# Altium integrated library Analog Devices Data Converters Analog-to-Digital Converters.IntLib: 2400 symbols (part 254 of 338)
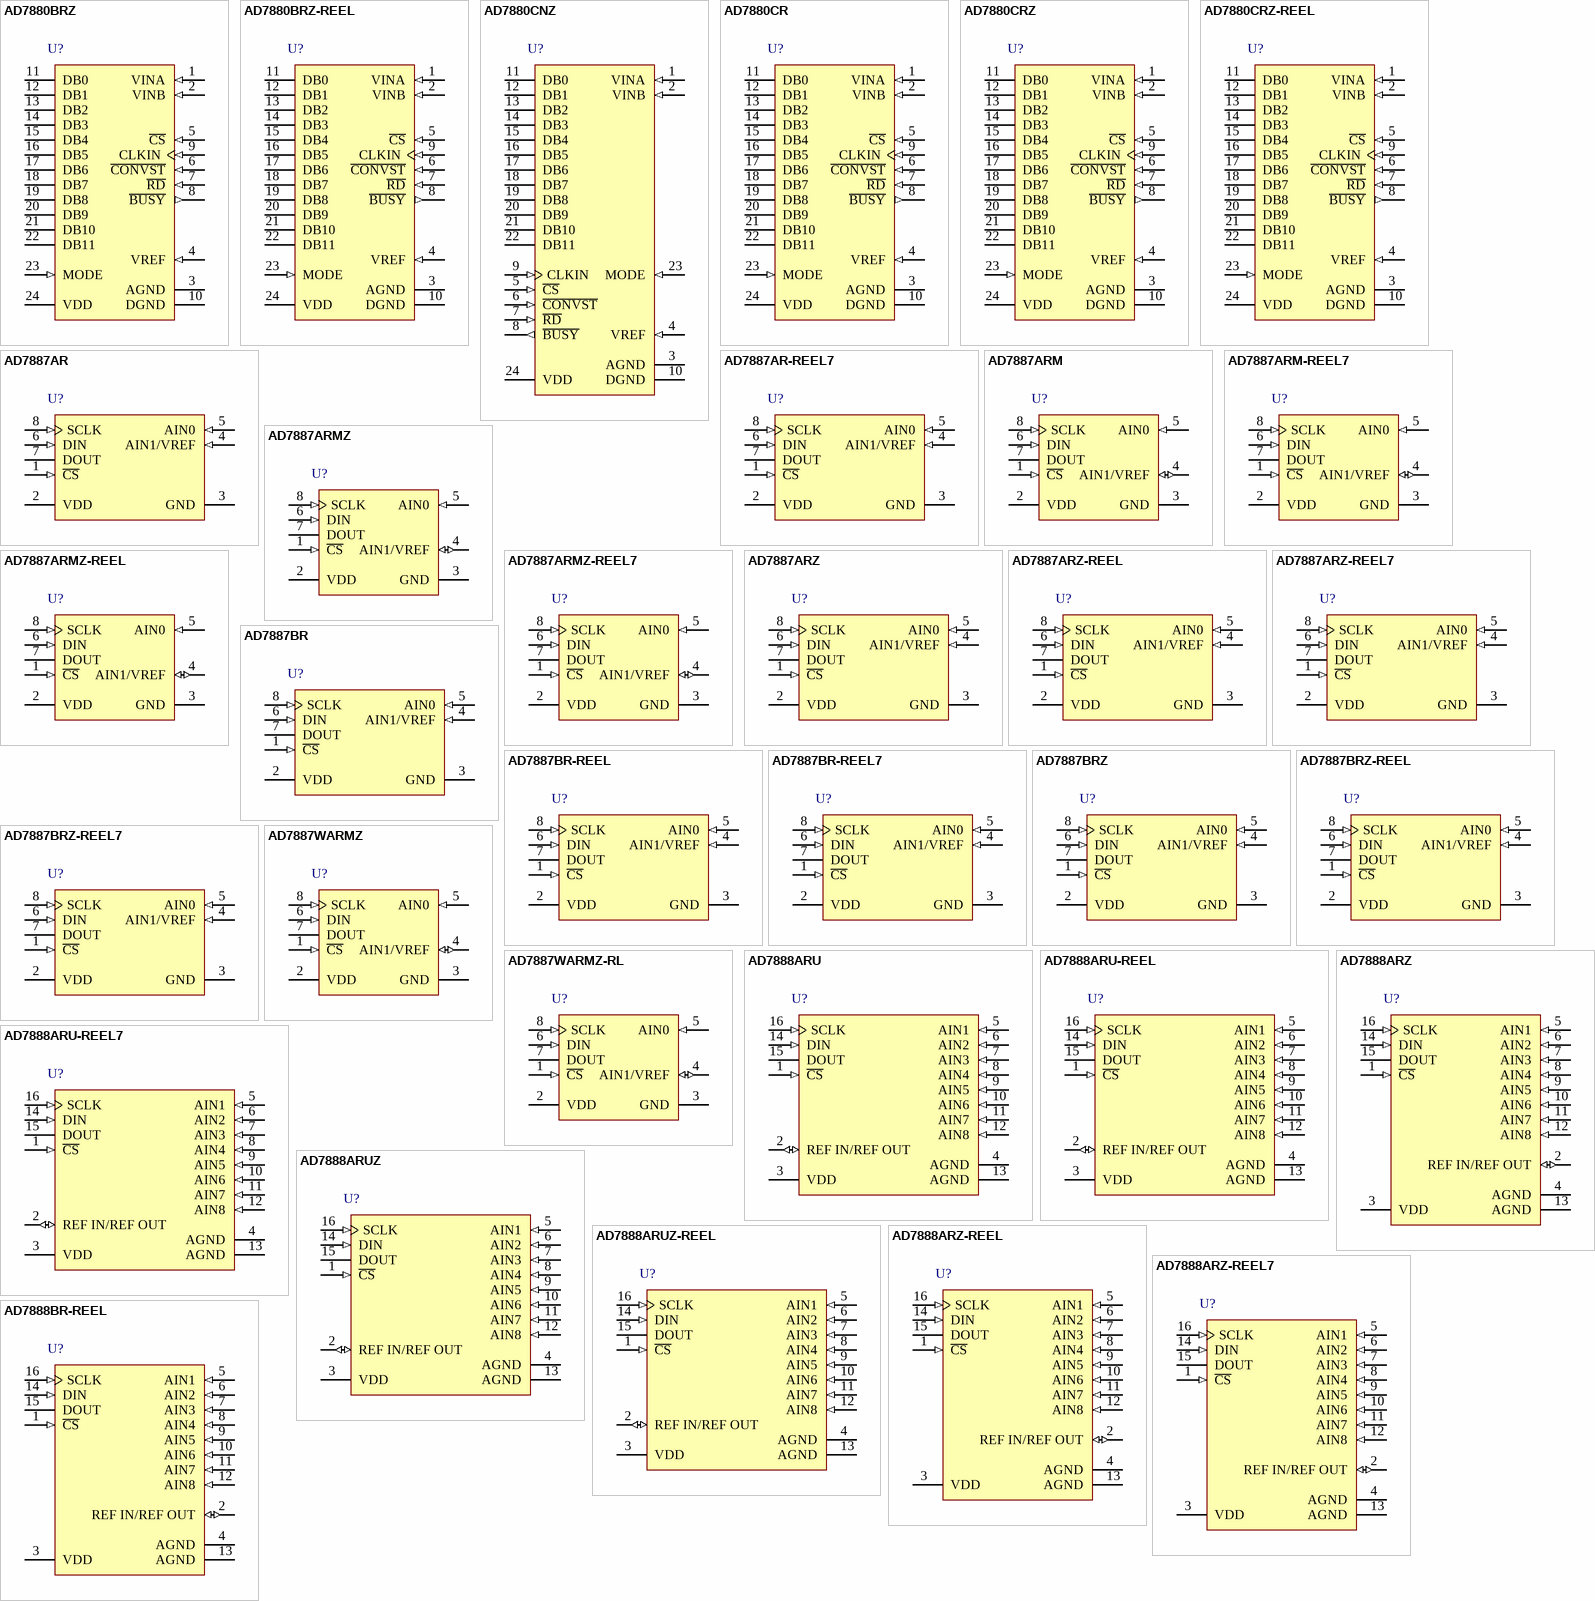
[diagram p392: symbols AD7880BRZ to AD7888BR-REEL]

## AD7880BRZ
designator U?
Single 12-Bit Sampling Low Power Analog-to-Digital Converter with Parallel Interface, LC2MOS, LC2MOS Single +5 V 66KSPS, 0 to +70 degC, RW-24, Pb-Free, Tube; Part Number: AD7880; Manufacturer: Analog Devices; Resolution (Bits): 12; Channels: 1; Throughput Rate (SPS): 66K; Interface: Par; DatasheetVersion: Rev.0; PackageVersion: 060706-A; PackageReference: RW-24; PackageDescription: 24-Lead Standard Small Outline Package [SOIC_W]; RoHS: Y; Packing: Tube; Mounting Technology: Surface Mount; Code_JEDEC: MS-013-AD; ComponentLink1Description: Manufacturer URL; ComponentLink1URL: http://www.analog.com/en/index.html; ComponentLink2Description: Datasheet; ComponentLink2URL: http://www.analog.com/static/imported-files/data_sheets/AD7880.pdf; ComponentLink3Description: Package Specification; ComponentLink3URL: http://www.analog.com/static/imported-files/packages/33665150946139RW_24.pdf; ComponentLink4Description: Product URL; ComponentLink4URL: http://www.analog.com/en/analog-to-digital-converters/ad-converters/ad7880/products/product.html
footprint RW-24_N (SOIC, 24-Leads, Body 15.4x7.5mm, Pitch 1.27mm, IPC Medium Density)
footprint RW-24_L (SOIC, 24-Leads, Body 15.4x7.5mm, Pitch 1.27mm, IPC High Density)
footprint RW-24_M (SOIC, 24-Leads, Body 15.4x7.5mm, Pitch 1.27mm, IPC Low Density)
pins: 1 VINA (in) "Analog Input.", 2 VINB (in) "Analog Input.", 3 AGND (power) "Analog Ground.", 4 VREF (in) "Voltage Reference Input. This is normally tied to VDD.", 5 ~{CS} (in) "Chip Select. Active Low Logic input. The device is selected when this input is active.", 6 ~{CONVST} (in) "Convert Start. A low to high transition on this input puts the track/hold into hold mode and starts conversion. This input is asynchronous to the CLKIN and is independent of C\S\ and R\D\.", 7 ~{RD} (in) "Read. Active Low Logic Input. This input is used in conjunction with C\S\ low to enable data outputs", 8 ~{BUSY} (out) "Active Low Logic Output. This status line indicates converter status. B\U\S\Y\ is low during conversion.", 9 CLKIN (in) "Clock Input. TTL-compatible logic input. Used as the clock source for the A/D converter. The mark/space ratio of the clock can vary from 40/60 to 60/40.", 10 DGND (power) "Digital Ground.", 11 DB0 (hiz) "Three-State Data Outputs. These become active when C\S\ and R\D\ are brought low.", 12 DB1 (hiz) "Three-State Data Outputs. These become active when C\S\ and R\D\ are brought low.", 13 DB2 (hiz) "Three-State Data Outputs. These become active when C\S\ and R\D\ are brought low.", 14 DB3 (hiz) "Three-State Data Outputs. These become active when C\S\ and R\D\ are brought low.", 15 DB4 (hiz) "Three-State Data Outputs. These become active when C\S\ and R\D\ are brought low.", 16 DB5 (hiz) "Three-State Data Outputs. These become active when C\S\ and R\D\ are brought low.", 17 DB6 (hiz) "Three-State Data Outputs. These become active when C\S\ and R\D\ are brought low.", 18 DB7 (hiz) "Three-State Data Outputs. These become active when C\S\ and R\D\ are brought low.", 19 DB8 (hiz) "Three-State Data Outputs. These become active when C\S\ and R\D\ are brought low.", 20 DB9 (hiz) "Three-State Data Outputs. These become active when C\S\ and R\D\ are brought low.", 21 DB10 (hiz) "Three-State Data Outputs. These become active when C\S\ and R\D\ are brought low.", 22 DB11 (hiz) "Three-State Data Outputs. These become active when C\S\ and R\D\ are brought low.", 23 MODE (in) "MODE Input. This input is used to put the device into the power save mode (MODE = 0 V). During normal operation, the MODE input will be a logic high (MODE = VDD).", 24 VDD (power) "Power Supply. This is nominally +5 V."

## AD7880BRZ-REEL
designator U?
Single 12-Bit Sampling Low Power Analog-to-Digital Converter with Parallel Interface, LC2MOS, LC2MOS Single +5 V 66KSPS, 0 to +70 degC, RW-24, Pb-Free, Reel; Part Number: AD7880; Manufacturer: Analog Devices; Resolution (Bits): 12; Channels: 1; Throughput Rate (SPS): 66K; Interface: Par; DatasheetVersion: Rev.0; PackageVersion: 060706-A; PackageReference: RW-24; PackageDescription: 24-Lead Standard Small Outline Package [SOIC_W]; RoHS: Y; Packing: Reel; Mounting Technology: Surface Mount; Code_JEDEC: MS-013-AD; ComponentLink1Description: Manufacturer URL; ComponentLink1URL: http://www.analog.com/en/index.html; ComponentLink2Description: Datasheet; ComponentLink2URL: http://www.analog.com/static/imported-files/data_sheets/AD7880.pdf; ComponentLink3Description: Package Specification; ComponentLink3URL: http://www.analog.com/static/imported-files/packages/33665150946139RW_24.pdf; ComponentLink4Description: Product URL; ComponentLink4URL: http://www.analog.com/en/analog-to-digital-converters/ad-converters/ad7880/products/product.html
footprint RW-24_N (SOIC, 24-Leads, Body 15.4x7.5mm, Pitch 1.27mm, IPC Medium Density)
footprint RW-24_L (SOIC, 24-Leads, Body 15.4x7.5mm, Pitch 1.27mm, IPC High Density)
footprint RW-24_M (SOIC, 24-Leads, Body 15.4x7.5mm, Pitch 1.27mm, IPC Low Density)
pins: 1 VINA (in) "Analog Input.", 2 VINB (in) "Analog Input.", 3 AGND (power) "Analog Ground.", 4 VREF (in) "Voltage Reference Input. This is normally tied to VDD.", 5 ~{CS} (in) "Chip Select. Active Low Logic input. The device is selected when this input is active.", 6 ~{CONVST} (in) "Convert Start. A low to high transition on this input puts the track/hold into hold mode and starts conversion. This input is asynchronous to the CLKIN and is independent of C\S\ and R\D\.", 7 ~{RD} (in) "Read. Active Low Logic Input. This input is used in conjunction with C\S\ low to enable data outputs", 8 ~{BUSY} (out) "Active Low Logic Output. This status line indicates converter status. B\U\S\Y\ is low during conversion.", 9 CLKIN (in) "Clock Input. TTL-compatible logic input. Used as the clock source for the A/D converter. The mark/space ratio of the clock can vary from 40/60 to 60/40.", 10 DGND (power) "Digital Ground.", 11 DB0 (hiz) "Three-State Data Outputs. These become active when C\S\ and R\D\ are brought low.", 12 DB1 (hiz) "Three-State Data Outputs. These become active when C\S\ and R\D\ are brought low.", 13 DB2 (hiz) "Three-State Data Outputs. These become active when C\S\ and R\D\ are brought low.", 14 DB3 (hiz) "Three-State Data Outputs. These become active when C\S\ and R\D\ are brought low.", 15 DB4 (hiz) "Three-State Data Outputs. These become active when C\S\ and R\D\ are brought low.", 16 DB5 (hiz) "Three-State Data Outputs. These become active when C\S\ and R\D\ are brought low.", 17 DB6 (hiz) "Three-State Data Outputs. These become active when C\S\ and R\D\ are brought low.", 18 DB7 (hiz) "Three-State Data Outputs. These become active when C\S\ and R\D\ are brought low.", 19 DB8 (hiz) "Three-State Data Outputs. These become active when C\S\ and R\D\ are brought low.", 20 DB9 (hiz) "Three-State Data Outputs. These become active when C\S\ and R\D\ are brought low.", 21 DB10 (hiz) "Three-State Data Outputs. These become active when C\S\ and R\D\ are brought low.", 22 DB11 (hiz) "Three-State Data Outputs. These become active when C\S\ and R\D\ are brought low.", 23 MODE (in) "MODE Input. This input is used to put the device into the power save mode (MODE = 0 V). During normal operation, the MODE input will be a logic high (MODE = VDD).", 24 VDD (power) "Power Supply. This is nominally +5 V."

## AD7880CNZ
designator U?
Single 12-Bit Sampling Low Power Analog-to-Digital Converter with Parallel Interface, LC2MOS, LC2MOS Single +5 V 66KSPS, -40 to +85 degC, N-24-1, Pb-Free, Tube; Part Number: AD7880; Manufacturer: Analog Devices; Resolution (Bits): 12; Channels: 1; Throughput Rate (SPS): 66K; Interface: Par; DatasheetVersion: Rev.0; PackageVersion: 071006-A; PackageReference: N-24-1; PackageDescription: 24-Lead Plastic Dual In-Line Package [PDIP] Narrow Body; RoHS: Y; Packing: Tube; Mounting Technology: Through-hole; Code_JEDEC: MS-001; ComponentLink1Description: Manufacturer URL; ComponentLink1URL: http://www.analog.com/en/index.html; ComponentLink2Description: Datasheet; ComponentLink2URL: http://www.analog.com/static/imported-files/data_sheets/AD7880.pdf; ComponentLink3Description: Package Specification; ComponentLink3URL: http://www.analog.com/static/imported-files/packages/50726455539629N_24_1.pdf; ComponentLink4Description: Product URL; ComponentLink4URL: http://www.analog.com/en/analog-to-digital-converters/ad-converters/ad7880/products/product.html
footprint N-24-1 (DIP, 24-Leads, Row Spacing 7.62mm, Pitch 2.54mm, Body 31.9x6.6mm)
pins: 1 VINA (in) "Analog Input.", 2 VINB (in) "Analog Input.", 3 AGND (power) "Analog Ground.", 4 VREF (in) "Voltage Reference Input. This is normally tied to VDD.", 5 ~{CS} (in) "Chip Select. Active Low Logic input. The device is selected when this input is active.", 6 ~{CONVST} (in) "Convert Start. A low to high transition on this input puts the track/hold into hold mode and starts conversion. This input is asynchronous to the CLKIN and is independent of C\S\ and R\D\.", 7 ~{RD} (in) "Read. Active Low Logic Input. This input is used in conjunction with C\S\ low to enable data outputs", 8 ~{BUSY} (out) "Active Low Logic Output. This status line indicates converter status. B\U\S\Y\ is low during conversion.", 9 CLKIN (in) "Clock Input. TTL-compatible logic input. Used as the clock source for the A/D converter. The mark/space ratio of the clock can vary from 40/60 to 60/40.", 10 DGND (power) "Digital Ground.", 11 DB0 (hiz) "Three-State Data Outputs. These become active when C\S\ and R\D\ are brought low.", 12 DB1 (hiz) "Three-State Data Outputs. These become active when C\S\ and R\D\ are brought low.", 13 DB2 (hiz) "Three-State Data Outputs. These become active when C\S\ and R\D\ are brought low.", 14 DB3 (hiz) "Three-State Data Outputs. These become active when C\S\ and R\D\ are brought low.", 15 DB4 (hiz) "Three-State Data Outputs. These become active when C\S\ and R\D\ are brought low.", 16 DB5 (hiz) "Three-State Data Outputs. These become active when C\S\ and R\D\ are brought low.", 17 DB6 (hiz) "Three-State Data Outputs. These become active when C\S\ and R\D\ are brought low.", 18 DB7 (hiz) "Three-State Data Outputs. These become active when C\S\ and R\D\ are brought low.", 19 DB8 (hiz) "Three-State Data Outputs. These become active when C\S\ and R\D\ are brought low.", 20 DB9 (hiz) "Three-State Data Outputs. These become active when C\S\ and R\D\ are brought low.", 21 DB10 (hiz) "Three-State Data Outputs. These become active when C\S\ and R\D\ are brought low.", 22 DB11 (hiz) "Three-State Data Outputs. These become active when C\S\ and R\D\ are brought low.", 23 MODE (in) "MODE Input. This input is used to put the device into the power save mode (MODE = 0 V). During normal operation, the MODE input will be a logic high (MODE = VDD).", 24 VDD (power) "Power Supply. This is nominally +5 V."

## AD7880CR
designator U?
Single 12-Bit Sampling Low Power Analog-to-Digital Converter with Parallel Interface, LC2MOS, LC2MOS Single +5 V 66KSPS, -40 to +85 degC, RW-24, Tube; Part Number: AD7880; Manufacturer: Analog Devices; Resolution (Bits): 12; Channels: 1; Throughput Rate (SPS): 66K; Interface: Par; DatasheetVersion: Rev.0; PackageVersion: 060706-A; PackageReference: RW-24; PackageDescription: 24-Lead Standard Small Outline Package [SOIC_W]; RoHS: N; Packing: Tube; Mounting Technology: Surface Mount; Code_JEDEC: MS-013-AD; ComponentLink1Description: Manufacturer URL; ComponentLink1URL: http://www.analog.com/en/index.html; ComponentLink2Description: Datasheet; ComponentLink2URL: http://www.analog.com/static/imported-files/data_sheets/AD7880.pdf; ComponentLink3Description: Package Specification; ComponentLink3URL: http://www.analog.com/static/imported-files/packages/33665150946139RW_24.pdf; ComponentLink4Description: Product URL; ComponentLink4URL: http://www.analog.com/en/analog-to-digital-converters/ad-converters/ad7880/products/product.html
footprint RW-24_N (SOIC, 24-Leads, Body 15.4x7.5mm, Pitch 1.27mm, IPC Medium Density)
footprint RW-24_L (SOIC, 24-Leads, Body 15.4x7.5mm, Pitch 1.27mm, IPC High Density)
footprint RW-24_M (SOIC, 24-Leads, Body 15.4x7.5mm, Pitch 1.27mm, IPC Low Density)
pins: 1 VINA (in) "Analog Input.", 2 VINB (in) "Analog Input.", 3 AGND (power) "Analog Ground.", 4 VREF (in) "Voltage Reference Input. This is normally tied to VDD.", 5 ~{CS} (in) "Chip Select. Active Low Logic input. The device is selected when this input is active.", 6 ~{CONVST} (in) "Convert Start. A low to high transition on this input puts the track/hold into hold mode and starts conversion. This input is asynchronous to the CLKIN and is independent of C\S\ and R\D\.", 7 ~{RD} (in) "Read. Active Low Logic Input. This input is used in conjunction with C\S\ low to enable data outputs", 8 ~{BUSY} (out) "Active Low Logic Output. This status line indicates converter status. B\U\S\Y\ is low during conversion.", 9 CLKIN (in) "Clock Input. TTL-compatible logic input. Used as the clock source for the A/D converter. The mark/space ratio of the clock can vary from 40/60 to 60/40.", 10 DGND (power) "Digital Ground.", 11 DB0 (hiz) "Three-State Data Outputs. These become active when C\S\ and R\D\ are brought low.", 12 DB1 (hiz) "Three-State Data Outputs. These become active when C\S\ and R\D\ are brought low.", 13 DB2 (hiz) "Three-State Data Outputs. These become active when C\S\ and R\D\ are brought low.", 14 DB3 (hiz) "Three-State Data Outputs. These become active when C\S\ and R\D\ are brought low.", 15 DB4 (hiz) "Three-State Data Outputs. These become active when C\S\ and R\D\ are brought low.", 16 DB5 (hiz) "Three-State Data Outputs. These become active when C\S\ and R\D\ are brought low.", 17 DB6 (hiz) "Three-State Data Outputs. These become active when C\S\ and R\D\ are brought low.", 18 DB7 (hiz) "Three-State Data Outputs. These become active when C\S\ and R\D\ are brought low.", 19 DB8 (hiz) "Three-State Data Outputs. These become active when C\S\ and R\D\ are brought low.", 20 DB9 (hiz) "Three-State Data Outputs. These become active when C\S\ and R\D\ are brought low.", 21 DB10 (hiz) "Three-State Data Outputs. These become active when C\S\ and R\D\ are brought low.", 22 DB11 (hiz) "Three-State Data Outputs. These become active when C\S\ and R\D\ are brought low.", 23 MODE (in) "MODE Input. This input is used to put the device into the power save mode (MODE = 0 V). During normal operation, the MODE input will be a logic high (MODE = VDD).", 24 VDD (power) "Power Supply. This is nominally +5 V."